# EAGLE library part IRF-7862 (library trash-robot-eagle-library)
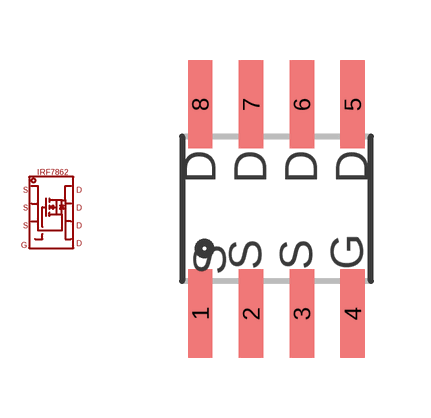
[diagram p3: symbol with the pads of IRF-7862; footprint IRF-7862]

Designator prefix -

## IRF-7862  [IRF-7862]
1  1
2  2
3  3
4  4
5  5
6  6
7  7
8  8

## Footprint IRF-7862 (pad centres in mm)
smd 0.61 x 2.21: 1 -1.905,-2.616; 2 -0.635,-2.616; 3 0.635,-2.616; 4 1.905,-2.616; 5 1.905,2.616; 6 0.635,2.616; 7 -0.635,2.616; 8 -1.905,2.616